# Altium schematic symbol library ATTINY85-20SU.SchLib: 1 symbol
Pins are listed as number, name and electrical type; pins without a type are passive.

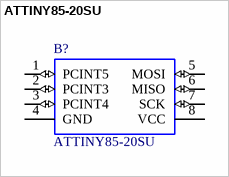
[diagram p0: symbol ATTINY85-20SU]

## ATTINY85-20SU
designator B?
MICROCHIP - ATTINY85-20SU - MICROCONTROLLER MCU, 8 BIT, ATTINY, 20MHZ, SOIC-8; Geometry.Height: 2.16mm; Manufacturer_Name: Microchip; Manufacturer_Part_Number: ATTINY85-20SU; RS Part Number: 1331674; RS Price/Stock: http://uk.rs-online.com/web/p/products/1331674; Arrow Part Number: ATTINY85-20SU; Arrow Price/Stock: https://www.arrow.com/en/products/attiny85-20su/microchip-technology; Datasheet Link: https://componentsearchengine.com/Datasheets/2/ATTINY85-20SU.pdf
footprint SOT127P798X216-8N
pins: 1 PCINT5 (io), 2 PCINT3 (io), 3 PCINT4 (io), 4 GND, 5 MOSI (io), 6 MISO (io), 7 SCK (io), 8 VCC (power)